# Altium integrated library Arduino_nano.IntLib: 2 symbols
Pins are listed as number, name and electrical type; pins without a type are passive.

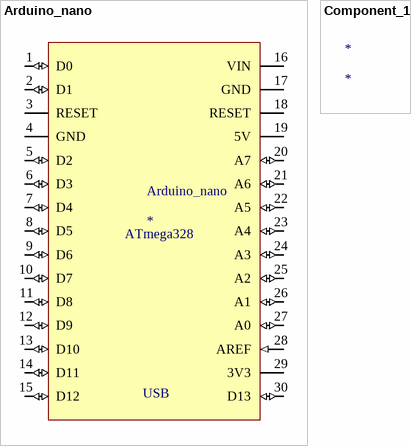
[diagram p0: symbols Arduino_nano to Component_1]

## Arduino_nano
designator Arduino_nano
footprint Arduino_nano
pins: 1 D0 (io), 2 D1 (io), 3 RESET, 4 GND, 5 D2 (io), 6 D3 (io), 7 D4 (io), 8 D5 (io), 9 D6 (io), 10 D7 (io), 11 D8 (io), 12 D9 (io), 13 D10 (io), 14 D11 (io), 15 D12 (io), 16 VIN, 17 GND, 18 RESET, 19 5V (power), 20 A7 (io), 21 A6 (io), 22 A5 (io), 23 A4 (io), 24 A3 (io), 25 A2 (io), 26 A1 (io), 27 A0 (io), 28 AREF (in), 29 3V3 (power), 30 D13 (io)
1 alternate drawing of the same symbol
text: ATmega328; USB

## Component_1
designator *